# Altium integrated library FTDI RS232toUSB.IntLib: 1 symbol
Pins are listed as number, name and electrical type; pins without a type are passive.

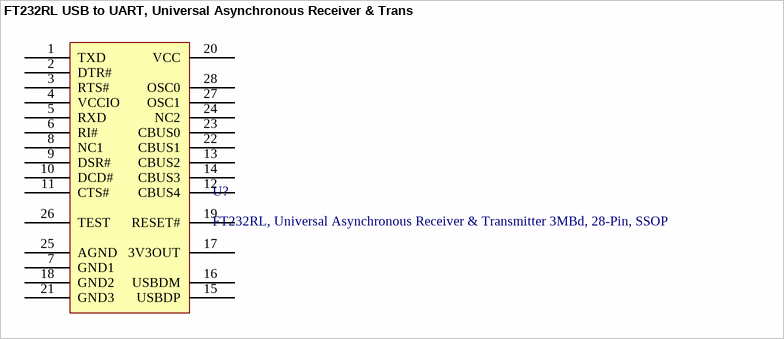
[diagram p0: symbol FT232RL USB to UART, Universal Asynchronous Receiver & Transmitter 3MBd, 28-Pin, SSOP]

## FT232RL USB to UART, Universal Asynchronous Receiver & Transmitter 3MBd, 28-Pin, SSOP
designator U?, comment FT232RL, Universal Asynchronous Receiver & Transmitter 3MBd, 28-Pin, SSOP
Manufacturer: FTDI Chip; Creator: R Kanjee; Date Created: 03 March 2015; Manufacturer Part No.: FT232RL; RS Stock No.: 406-580; Pin Count: 28
footprint SOP65P780X200-28N (SOP, 28-Leads, Body 10.20x5.30mm, Pitch 0.65mm, IPC Medium Density)
pins: 1 TXD, 2 DTR#, 3 RTS#, 4 VCCIO, 5 RXD, 6 RI#, 7 GND1, 8 NC1, 9 DSR#, 10 DCD#, 11 CTS#, 12 CBUS4, 13 CBUS2, 14 CBUS3, 15 USBDP, 16 USBDM, 17 3V3OUT, 18 GND2, 19 RESET#, 20 VCC, 21 GND3, 22 CBUS1, 23 CBUS0, 24 NC2, 25 AGND, 26 TEST, 27 OSC1, 28 OSC0